# EAGLE library part DIP8 (library mylib)
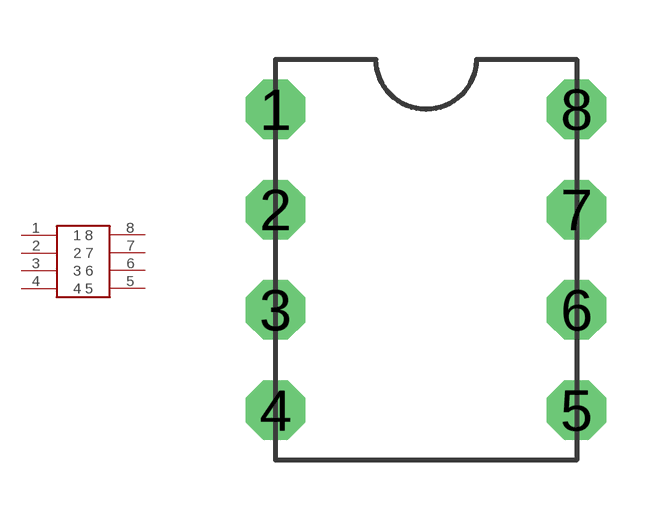
[diagram p1: symbol with the pads of DIP8; footprint DIP8]

Designator prefix -

## DIP8  [DIP8]
1  1
2  2
3  3
4  4
5  5
6  6
7  7
8  8

## Footprint DIP8 (pad centres in mm)
drill 1 octagon: 1 -3.81,3.81; 2 -3.81,1.27; 3 -3.81,-1.27; 4 -3.81,-3.81; 5 3.81,-3.81; 6 3.81,-1.27; 7 3.81,1.27; 8 3.81,3.81